# Altium footprint library PCB - LEADLESS - SON - TI - VSON-6 DMQ0006A.PcbLib: 1 footprints
Each footprint in its own frame and in the unit in brackets; x right, y up, seen from the top. Pads: shape width x height; smd on the part's side, far side on the other; paste and mask are expansions set on the pad; w line width, h text height; cw(c..) or ccw(c..) is an arc to the next point about the centre after c.
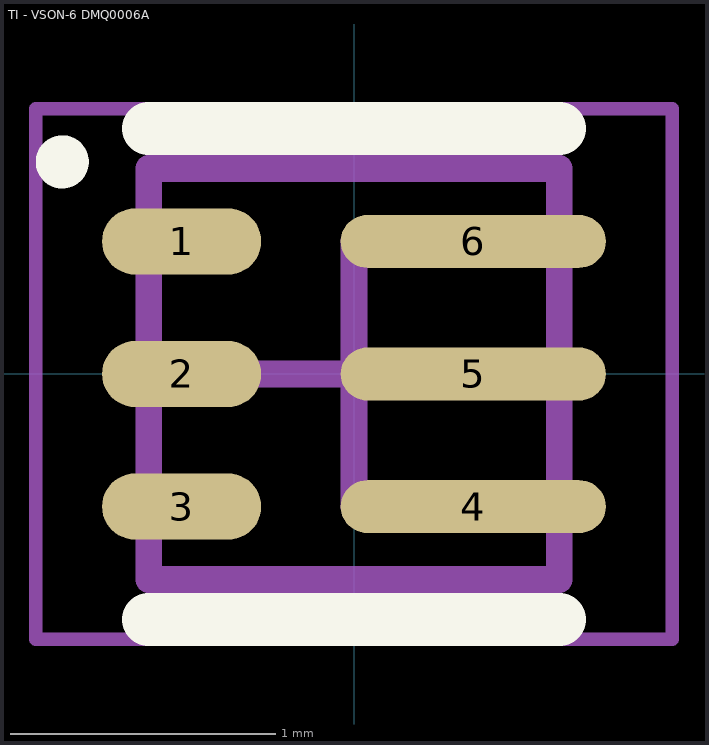
[diagram p0: the footprint, top view; thin cyan lines are the x and y axes]

## TI - VSON-6 DMQ0006A [mm] "VSON, 6-Leads, Body 1.50x1.50mm, Pitch 0.50mm"
height 1
pads (6):
  oval 0.6x0.25 smd: 1(-0.65,0.5) 2(-0.65,0) 3(-0.65,-0.5)
  oval 1x0.2 smd: 4(0.45,-0.5) 5(0.45,0) 6(0.45,0.5)
Top Overlay:
  circle w0.1: c-1.1,0.8 r0.05
  lines w0.2: -0.775,-0.925 0.775,-0.925 ; -0.775,0.925 0.775,0.925
Mechanical 13:
  lines w0.1: -0.775,-0.775 0.775,-0.775 0.775,0.775 -0.775,0.775 -0.775,-0.775
Mechanical 15:
  lines w0.05: -1.2,-1 1.2,-1 1.2,1 -1.2,1 -1.2,-1
  lines w0.1: -0.5,0 0.5,0 ; 0,-0.5 0,0.5
3D body "TI - VSON-6 DMQ0006A.step": height 1, standoff 0, extent -0.752,-0.75 0.752,0.75